# Altium footprint library 杂项库.PcbLib: 585 footprints (part 1 of 37)
Each footprint in its own frame and in the unit in brackets; x right, y up, seen from the top. Pads: shape width x height; smd on the part's side, far side on the other; paste and mask are expansions set on the pad; w line width, h text height; cw(c..) or ccw(c..) is an arc to the next point about the centre after c.
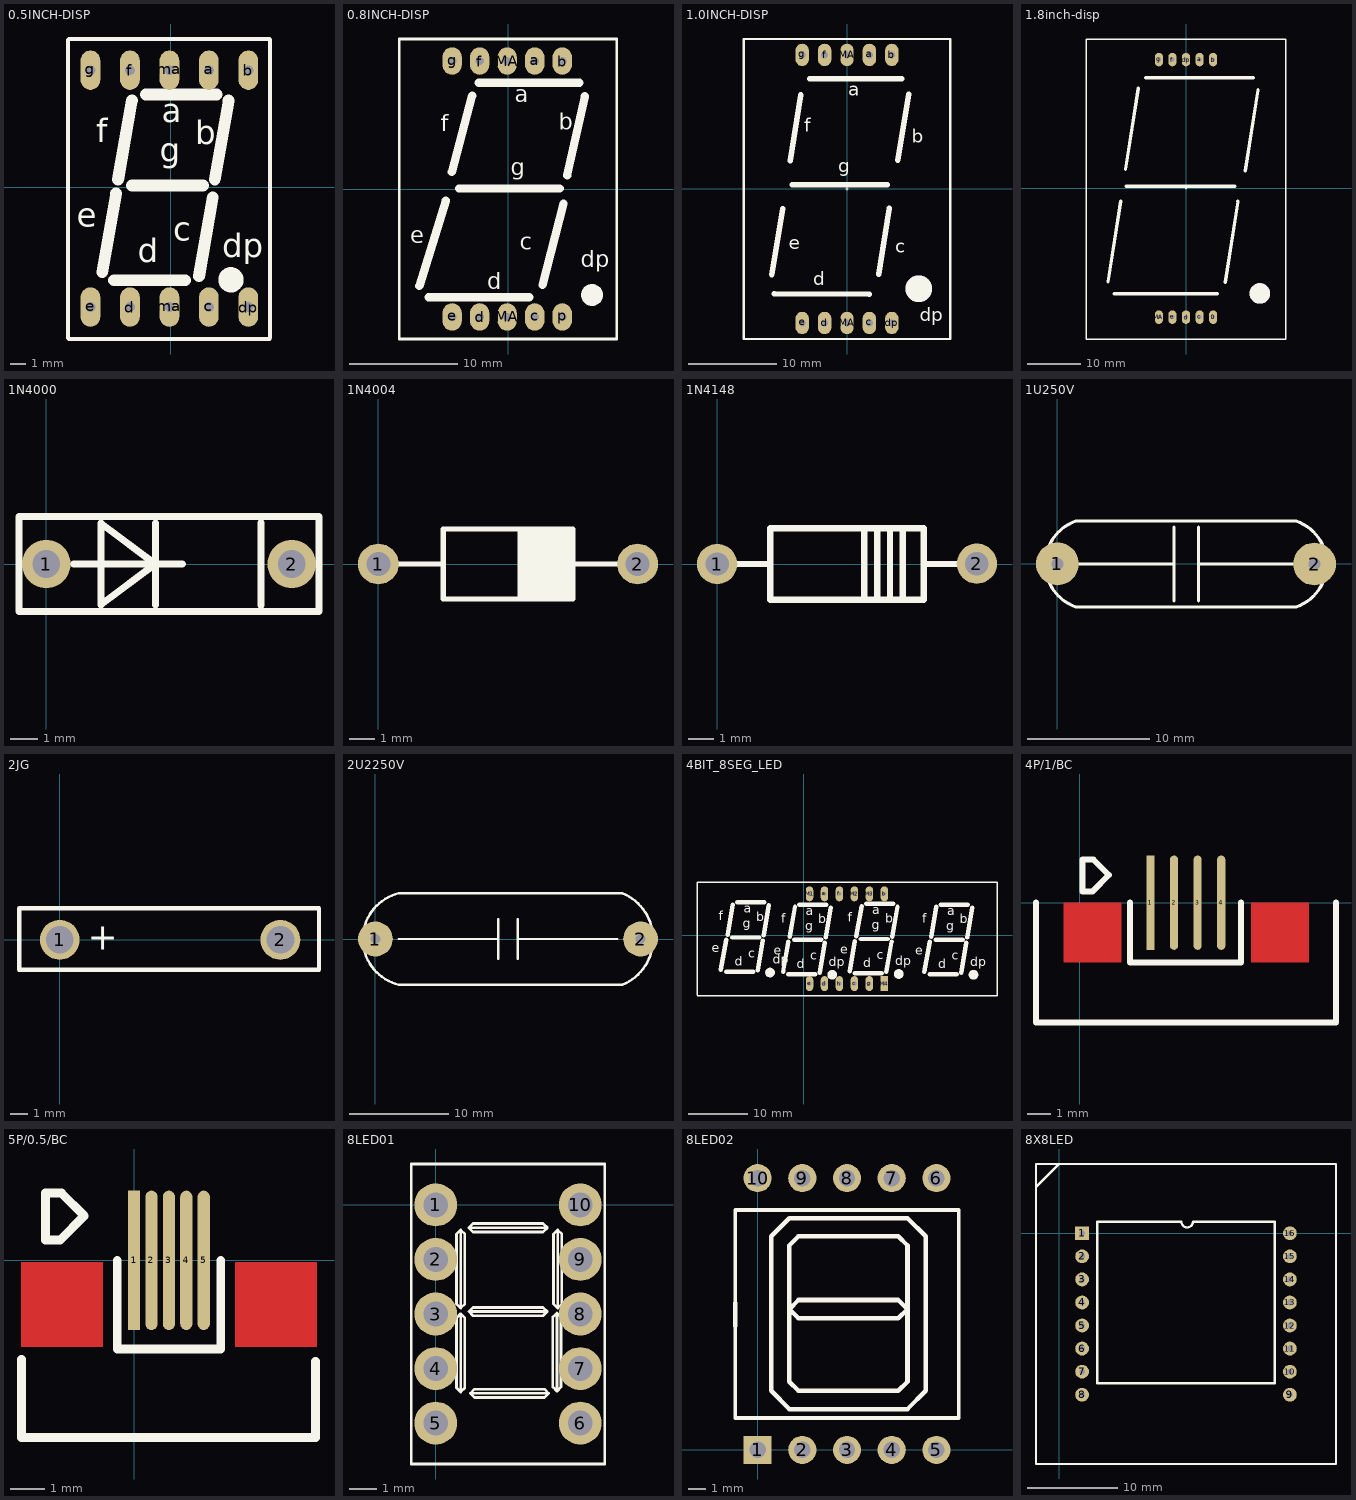
[diagram p0: the footprints below, top view; thin cyan lines are the x and y axes]

## 0.5INCH-DISP [mil]
pads (10):
  oval 50x100 hole 25: a(97,297) b(197,297) c(97,-303) d(-103,-303) dp(197,-303) e(-203,-303) f(-103,297) g(-203,297) ma(-3,-303) ma(-3,297)
Top Overlay:
  circle w40: c153,-234 r12
  lines w10: -260,-382 -260,374 ; -258,-384 251,-384 ; -258,376 251,376 ; 252,-380 252,374
  lines w30: -173,-215 -138,-15 ; -143,-235 37,-235 ; -133,20 -98,220 ; -98,5 82,5 ; -63,235 117,235 ; 72,-225 107,-25 ; 112,20 147,220
  text "f" at -188,115 h60
  text "b" at 62,110 h60
  text "g" at -28,65 h60
  text "a" at -23,165 h60
  text "d" at -83,-190 h60
  text "e" at -238,-100 h60
  text "dp" at 131,-177 h60
  text "c" at 7,-135 h60

## 0.8INCH-DISP [mil]
pads (10):
  oval 70x100 hole 30: a(97,465) b(197,465) c(97,-465) d(-103,-465) e(-203,-465) f(-103,465) g(-203,465) MA(-3,-465) MA(-3,465) p(197,-465)
Top Overlay:
  circle w40: c305.31,-385 r19.68
  lines w10: -395,-545 -395,545 395,545 395,-545 -395,-545
  lines w30: -322,-352 -226,-42 ; -289,-393 77.14,-393 ; -204,62 -130,339 ; -177.68,2.24 188.47,2.24 ; -108,-478 -103,-473 ; -106.14,386 260,386 ; 125,-349 202,-53 ; 215,49 279,337
  text "a" at 25,315 h60
  text "g" at 10,50 h60
  text "c" at 43,-220 h60
  text "d" at -75,-365 h60
  text "e" at -355,-198 h60
  text "f" at -245,210 h60
  text "dp" at 265,-285 h60
  text "b" at 185,215 h60

## 1.0INCH-DISP [mil]
pads (10):
  oval 60x100 hole 30: a(100,598) b(200,598) c(100,-598) d(-100,-598) dp(200,-598) e(-200,-598) f(-100,598) g(-200,598) MA(0,-598) MA(0,598)
Top Overlay:
  lines w2: -6,0 6,0 ; 0,-6 0,5
  lines w10: -461,-10 -461,10 ; -460.88,-669.58 -460.88,669 ; -459.88,-669.58 461,-669.58 461,669 -459.88,669
  lines w25: -335,-382 -287,-89 ; -324,-467 99,-470 ; -254,126 -206,419 ; -244,19 179,19 ; -167,492 245,492 ; 141,-380 189,-87 ; 227,129 275,422
  text "a" at 5,415 h60
  text "b" at 290,205 h60
  text "c" at 215,-285 h60
  text "d" at -150,-430 h60
  text "e" at -260,-270 h60
  text "f" at -190,255 h60
  text "dp" at 325,-590 h60
  text "g" at -40,75 h60
Top Overlay keep-out:
  circle w100: c320.57,-445 r9.43

## 1.8inch-disp [mil]
pads (10):
  oval 60x100 hole 30: 0(200,-950) a(100,950) b(200,950) c(100,-950) d(0,-950) dp(0,950) e(-100,-950) f(-100,950) g(-200,950) MA(-200,-950)
Top Overlay:
  lines w2: -5,0 5,0 ; 0,-5 0,4
  lines w10: -736,-1111 736,-1111 736,1101.6 -736,1101.6 -736,-1111
  lines w25: -575,-691 -481,-93 ; -528,-778 230,-778 ; -446,139 -352,737 ; -442,15 359,15 ; -299,815 496,815 ; 289,-694 383,-96 ; 437,128 531,726
Top Overlay keep-out:
  circle w100: c544.39,-775 r25.61

## 1N4000 [mil]
pads (2):
  round 70 hole 40: 1(0,0) 2(354.33,0)
Top Overlay:
  lines w10: 39.37,0 196.85,0 ; 157.48,-59.05 157.48,59.05 ; 310,-60 310,60 ; -39.37,-68.74 -39.37,68.74 393.7,68.74 393.7,-68.74 -39.37,-68.74 ; 78.74,-59.05 157.48,0 78.74,59.05 78.74,-59.05

## 1N4004 [mil]
pads (2):
  round 62 hole 36: 1(0,0) 2(393.7,0)
Top Overlay:
  lines w5.91: 214.57,-53.15 214.57,53.15 ; 218.5,-53.15 218.5,53.15 ; 222.44,-53.15 222.44,53.15 ; 226.38,-53.15 226.38,53.15 ; 230.31,-53.15 230.31,53.15 ; 234.25,-53.15 234.25,53.15 ; 238.19,-53.15 238.19,53.15 ; 242.13,-53.15 242.13,53.15 ; 246.06,-53.15 246.06,53.15 ; 250,-53.15 250,53.15 ; 253.94,-53.15 253.94,53.15 ; 257.87,-53.15 257.87,53.15 ; 261.81,-53.15 261.81,53.15 ; 265.75,-53.15 265.75,53.15 ; 269.69,-53.15 269.69,53.15 ; 273.62,-53.15 273.62,53.15 ; 277.56,-53.15 277.56,53.15 ; 281.5,-53.15 281.5,53.15 ; 285.43,-53.15 285.43,53.15 ; 289.37,-53.15 289.37,53.15 ; 293.31,-53.15 293.31,53.15
  lines w7.87: 23.62,0 98.42,0 ; 295.28,0 370.08,0 ; 98.42,-53.15 295.28,-53.15 295.28,53.15 98.42,53.15 98.42,-53.15

## 1N4148 [mil]
pads (2):
  round 62 hole 36: 1(0,0) 2(400,0.5)
Top Overlay:
  lines w9.84: 3.15,0 81.89,0 ; 226.77,-55.12 226.77,55.12 ; 246.46,-55.12 246.46,55.12 ; 266.14,-55.12 266.14,55.12 ; 285.83,-55.12 285.83,55.12 ; 396.85,0 318.11,0 ; 318.11,0 318.11,-55.12 81.89,-55.12 81.89,55.12 318.11,55.12 318.11,0

## 1U250V [mm]
pads (2):
  round 3.5 hole 1: 1(0,0) 2(21.007,-0.01)
Top Overlay:
  lines w0.25: 0.007,-0.01 9.507,-0.01 ; 9.507,-3.01 9.507,2.99 ; 11.507,-3.01 11.507,2.99 ; 11.507,-0.01 21.007,-0.01 ; 1.507,-3.51 cw(c2.707,-0.01) 1.507,3.49 19.507,3.49 cw(c18.307,-0.01) 19.507,-3.51 1.507,-3.51

## 2JG [mm]
pads (2):
  round 2.3 hole 1.6: 1(0,0) 2(12.722,0)
Top Overlay:
  lines w0.254: 0,-0.254 0,0.254 ; 12.7,-0.254 12.7,0.254 ; -2.349,-1.725 14.946,-1.725 14.946,1.825 -2.324,1.825 -2.324,-1.7 -2.349,-1.725
  text "+" at 1.625,-0.575 h1.52

## 2U2250V [mm]
pads (2):
  round 3.5 hole 1: 1(0,0) 2(26.67,0)
Top Overlay:
  lines w0.25: 2.335,0 12.335,0 ; 12.335,-2 12.335,2 ; 14.335,-2 14.335,2 ; 14.335,0 24.335,0 ; 2.335,-4.6 cw(c3.474,0) 2.335,4.6 24.835,4.6 cw(c22.974,0) 24.835,-4.6 2.335,-4.6

## 4BIT_8SEG_LED [mil]
pads (12):
  oval 50x100 hole 25: a(137,277) b(537,277) c(337,-323) d(137,-323) e(37,-323) f(237,277) g(437,-323) h(237,-323) M1(37,277) M2(337,277) M3(437,277)
  rect 50x100 hole 25: M4(537,-323)
Top Overlay:
  circle w40: c1133,-264 r12
  circle w40: c633,-259 r12
  circle w40: c-227,-249 r12
  circle w40: c188,-264 r12
  lines w10: -715,-405 1290,-405 ; -715,-401 -715,355 1290,355 1290,-404
  lines w30: -555,-230 -520,-30 ; -520,-245 -340,-245 ; -510,5 -475,205 ; -480,-15 -300,-15 ; -445,220 -265,220 ; -310,-235 -275,-35 ; -270,0 -235,200 ; -140,-245 -105,-45 ; -105,-260 75,-260 ; -95,-10 -60,190 ; -65,-30 115,-30 ; -30,205 150,205 ; 105,-250 140,-50 ; 145,-15 180,185 ; 305,-240 340,-40 ; 340,-255 520,-255 ; 350,-5 385,195 ; 380,-25 560,-25 ; 415,210 595,210 ; 550,-245 585,-45 ; 590,-10 625,190 ; 805,-245 840,-45 ; 840,-260 1020,-260 ; 850,-10 885,190 ; 880,-30 1060,-30 ; 915,205 1095,205 ; 1050,-250 1085,-50 ; 1090,-15 1125,185
  text "f" at 792,85 h60
  text "b" at 1042,80 h60
  text "g" at 952,35 h60
  text "a" at 957,135 h60
  text "d" at 897,-220 h60
  text "e" at 742,-130 h60
  text "dp" at 1111,-207 h60
  text "c" at 987,-165 h60
  text "f" at 292,90 h60
  text "b" at 542,85 h60
  text "g" at 452,40 h60
  text "a" at 457,140 h60
  text "d" at 397,-215 h60
  text "e" at 242,-125 h60
  text "dp" at 611,-202 h60
  text "c" at 487,-160 h60
  text "f" at -568,100 h60
  text "b" at -318,95 h60
  text "g" at -408,50 h60
  text "a" at -403,150 h60
  text "d" at -463,-205 h60
  text "e" at -618,-115 h60
  text "dp" at -209,-192 h60
  text "c" at -373,-150 h60
  text "f" at -153,85 h60
  text "b" at 97,80 h60
  text "g" at 7,35 h60
  text "a" at 12,135 h60
  text "d" at -48,-220 h60
  text "e" at -203,-130 h60
  text "dp" at 166,-207 h60
  text "c" at 42,-165 h60

## 4P/1/BC [mm]
pads (4):
  rect 0.35x4 smd: 1(3,0)
  oval 0.35x4 smd: 2(4,0) 3(5,0) 4(6,0)
Top Layer:
  region: 1.778,0 -0.686,0 -0.686,-2.54 1.778,-2.54
  region: 9.728,0 7.264,0 7.264,-2.54 9.728,-2.54
Top Overlay:
  lines w0.254: -1.854,0 -1.854,-5.08 10.871,-5.08 10.871,0 ; 0.127,1.767 0.127,1.829 ; 2.134,0 2.134,-2.54 6.833,-2.54 6.833,0 ; 0.127,1.829 0.127,0.483 0.548,0.483 1.239,1.174 0.584,1.829 0.127,1.829
Top Solder:
  region: 1.778,0 -0.686,0 -0.686,-2.54 1.778,-2.54
  region: 9.728,0 7.264,0 7.264,-2.54 9.728,-2.54

## 5P/0.5/BC [mm]
pads (5):
  rect 0.35x4 smd: 1(0,0)
  oval 0.35x4 smd: 2(0.5,0) 3(1,0) 4(1.5,0) 5(2,0)
Top Layer:
  region: -0.889,-0.051 -3.251,-0.051 -3.251,-2.489 -0.889,-2.489
  region: 5.258,-0.051 2.896,-0.051 2.896,-2.489 5.258,-2.489
Top Overlay:
  lines w0.254: -3.226,-2.845 -3.226,-5.08 5.207,-5.08 5.207,-2.896 ; -2.54,1.869 -2.54,1.93 ; -0.483,0 -0.483,-2.54 2.489,-2.54 2.489,0 ; -2.54,1.93 -2.54,0.584 -2.119,0.584 -1.428,1.275 -2.083,1.93 -2.54,1.93
Top Solder:
  region: -0.838,0 -3.302,0 -3.302,-2.54 -0.838,-2.54
  region: 5.309,0 2.845,0 2.845,-2.54 5.309,-2.54

## 8LED01 [mil]
pads (10):
  round 62 hole 36: 1(0,0) 2(0,-78.74) 3(0,-157.48) 4(0,-236.22) 5(0,-314.96) 6(208.66,-314.96) 7(208.66,-236.22) 8(208.66,-157.48) 9(208.66,-78.74) 10(208.66,0)
Top Overlay:
  lines w3.94: 36,-269.96 36,-156.96 ; 36,-269.96 30,-263.96 30,-162.96 36,-156.96 ; 36,-269.96 42,-263.96 42,-162.96 36,-156.96 ; 36,-148.96 36,-35.96 ; 36,-148.96 30,-142.96 30,-41.96 36,-35.96 ; 36,-148.96 42,-142.96 42,-41.96 36,-35.96 ; 48,-153.96 161,-153.96 ; 48,-153.96 54,-147.96 155,-147.96 161,-153.96 ; 48,-153.96 54,-159.96 155,-159.96 161,-153.96 ; 48,-32.96 161,-32.96 ; 48,-32.96 54,-26.96 155,-26.96 161,-32.96 ; 48,-32.96 54,-38.96 155,-38.96 161,-32.96 ; 50,-271.96 163,-271.96 ; 50,-271.96 56,-265.96 157,-265.96 163,-271.96 ; 50,-271.96 56,-277.96 157,-277.96 163,-271.96 ; 175,-268.96 175,-155.96 ; 175,-268.96 169,-262.96 169,-161.96 175,-155.96 ; 175,-268.96 181,-262.96 181,-161.96 175,-155.96 ; 176,-148.96 176,-35.96 ; 176,-148.96 170,-142.96 170,-41.96 176,-35.96 ; 176,-148.96 182,-142.96 182,-41.96 176,-35.96 ; -35.43,-374.01 244.09,-374.01 244.09,59.05 -35.43,59.05 -35.43,-374.01

## 8LED02 [mil]
pads (10):
  rect 62x62 hole 36: 1(0,0)
  round 62 hole 36: 2(98.42,0) 3(196.85,0) 4(295.28,0) 5(393.7,0) 6(393.7,598.42) 7(295.28,598.42) 8(196.85,598.42) 9(98.42,598.42) 10(0,598.42)
Top Overlay:
  lines w7.87: -49.21,274.61 -49.21,70.28 442.91,70.28 442.91,528.15 -49.21,528.15 -49.21,323.82
  lines w10: -49,272 -49,324 ; 30,130 70,90 330,90 370,130 370,470 330,510 310,510 90,510 70,510 30,470 30,130 ; 70,150 70,450 90,470 310,470 330,450 330,150 310,130 90,130 70,150 ; 70,310 90,330 310,330 330,310 310,290 90,290 70,310

## 8X8LED [mil]
pads (16):
  rect 60x60 hole 25: 1(100,0)
  round 60 hole 25: 2(100,-100) 3(100,-200) 4(100,-300) 5(100,-400) 6(100,-500) 7(100,-600) 8(100,-700) 9(1000,-700) 10(1000,-600) 11(1000,-500) 12(1000,-400) 13(1000,-300) 14(1000,-200) 15(1000,-100) 16(1000,0)
Top Overlay:
  lines w10: -100,200 0,300 ; -100,-1000 1200,-1000 1200,300 -100,300 -100,-1000 ; 165,-650 935,-650 935,50 580,50 cw(c555,50) 530,50 165,50 165,-650